# Altium footprint library QFN.PcbLib: 17 footprints (part 2 of 2)
Each footprint in its own frame and in the unit in brackets; x right, y up, seen from the top. Pads: shape width x height; smd on the part's side, far side on the other; paste and mask are expansions set on the pad; w line width, h text height; cw(c..) or ccw(c..) is an arc to the next point about the centre after c.
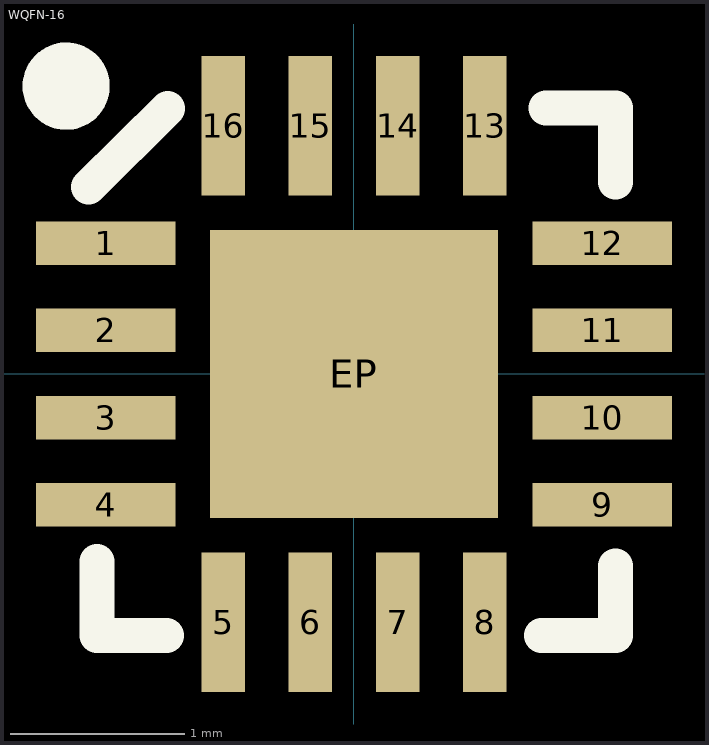
[diagram p1: the footprint, top view; thin cyan lines are the x and y axes]

## WQFN-16 [mm]
height 0.8
pads (17):
  rect 0.8x0.25 smd: 1(-1.425,0.75) 2(-1.425,0.25) 3(-1.425,-0.25) 4(-1.425,-0.75) 9(1.425,-0.75) 10(1.425,-0.25) 11(1.425,0.25) 12(1.425,0.75)
  rect 0.25x0.8 smd: 5(-0.75,-1.425) 6(-0.25,-1.425) 7(0.25,-1.425) 8(0.75,-1.425) 13(0.75,1.425) 14(0.25,1.425) 15(-0.25,1.425) 16(-0.75,1.425)
  rect 1.65x1.65 smd: EP(0,0)
Top Overlay:
  circle w0.25: c-1.651,1.651 r0.125
  lines w0.2: -1.523,1.073 -1.068,1.523 ; -1.475,-1.075 -1.475,-1.5 -1.075,-1.5 ; 1.075,-1.5 1.5,-1.5 1.5,-1.1 ; 1.1,1.525 1.5,1.525 1.5,1.1
3D body: height 0.8, standoff 0.08, extent -1.5,-1.5 1.5,1.5